# EAGLE library part 532955-4 (library con-amp)
PCB Connector
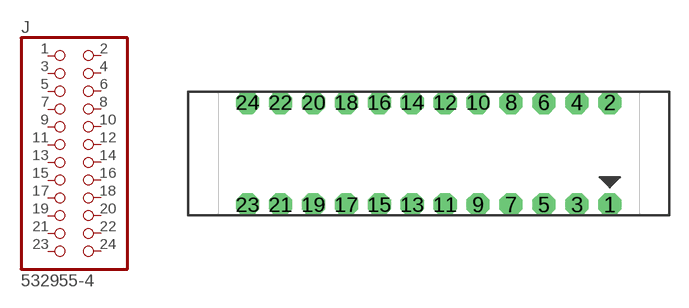
[diagram p130: symbol with the pads of 532955-4; footprint 532955-4]

Designator prefix J

## 532955-4  [532955-4]
1  1  pas
2  2  pas
3  3  pas
4  4  pas
5  5  pas
6  6  pas
7  7  pas
8  8  pas
9  9  pas
10  10  pas
11  11  pas
12  12  pas
13  13  pas
14  14  pas
15  15  pas
16  16  pas
17  17  pas
18  18  pas
19  19  pas
20  20  pas
21  21  pas
22  22  pas
23  23  pas
24  24  pas

## Footprint 532955-4 (pad centres in mm)
PCB Connector 24 pin Female Receptacal, 2x12, 0.1" spacing
drill 1.016 pad 1.778 octagon: 1 13.97,-3.937; 2 13.97,3.937; 3 11.43,-3.937; 4 11.43,3.937; 5 8.89,-3.937; 6 8.89,3.937; 7 6.35,-3.937; 8 6.35,3.937; 9 3.81,-3.937; 10 3.81,3.937; 11 1.27,-3.937; 12 1.27,3.937; 13 -1.27,-3.937; 14 -1.27,3.937; 15 -3.81,-3.937; 16 -3.81,3.937; 17 -6.35,-3.937; 18 -6.35,3.937; 19 -8.89,-3.937; 20 -8.89,3.937; 21 -11.43,-3.937; 22 -11.43,3.937; 23 -13.97,-3.937; 24 -13.97,3.937